# EAGLE library part MAX3218 (library laforge)
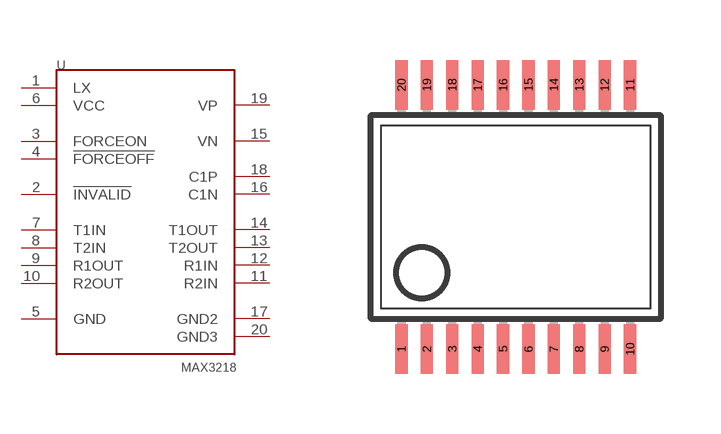
[diagram p24: symbol with the pads of SSOP20; footprint SSOP20]

Designator prefix -

## MAX3218  [SSOP20]
1  LX  pas
2  !INVALID  out
3  FORCEON  in
4  !FORCEOFF  in
5  GND  pas
6  VCC  pas
7  T1IN  in
8  T2IN  in
9  R1OUT  out
10  R2OUT  out
11  R2IN  in
12  R1IN  in
13  T2OUT  out
14  T1OUT  out
15  VN  pas
16  C1N  pas
17  GND2  pas
18  C1P  pas
19  VP  pas
20  GND3  pas

## Footprint SSOP20 (pad centres in mm)
smd 0.305 x 1.245: 1 -2.857,-3.302; 2 -2.222,-3.302; 3 -1.587,-3.302; 4 -0.952,-3.302; 5 -0.317,-3.302; 6 0.318,-3.302; 7 0.953,-3.302; 8 1.588,-3.302; 9 2.223,-3.302; 10 2.858,-3.302; 11 2.858,3.302; 12 2.223,3.302; 13 1.588,3.302; 14 0.953,3.302; 15 0.318,3.302; 16 -0.317,3.302; 17 -0.952,3.302; 18 -1.587,3.302; 19 -2.222,3.302; 20 -2.857,3.302